# Altium schematic symbol library Digital.SchLib: 5 symbols
Pins are listed as number, name and electrical type; pins without a type are passive.

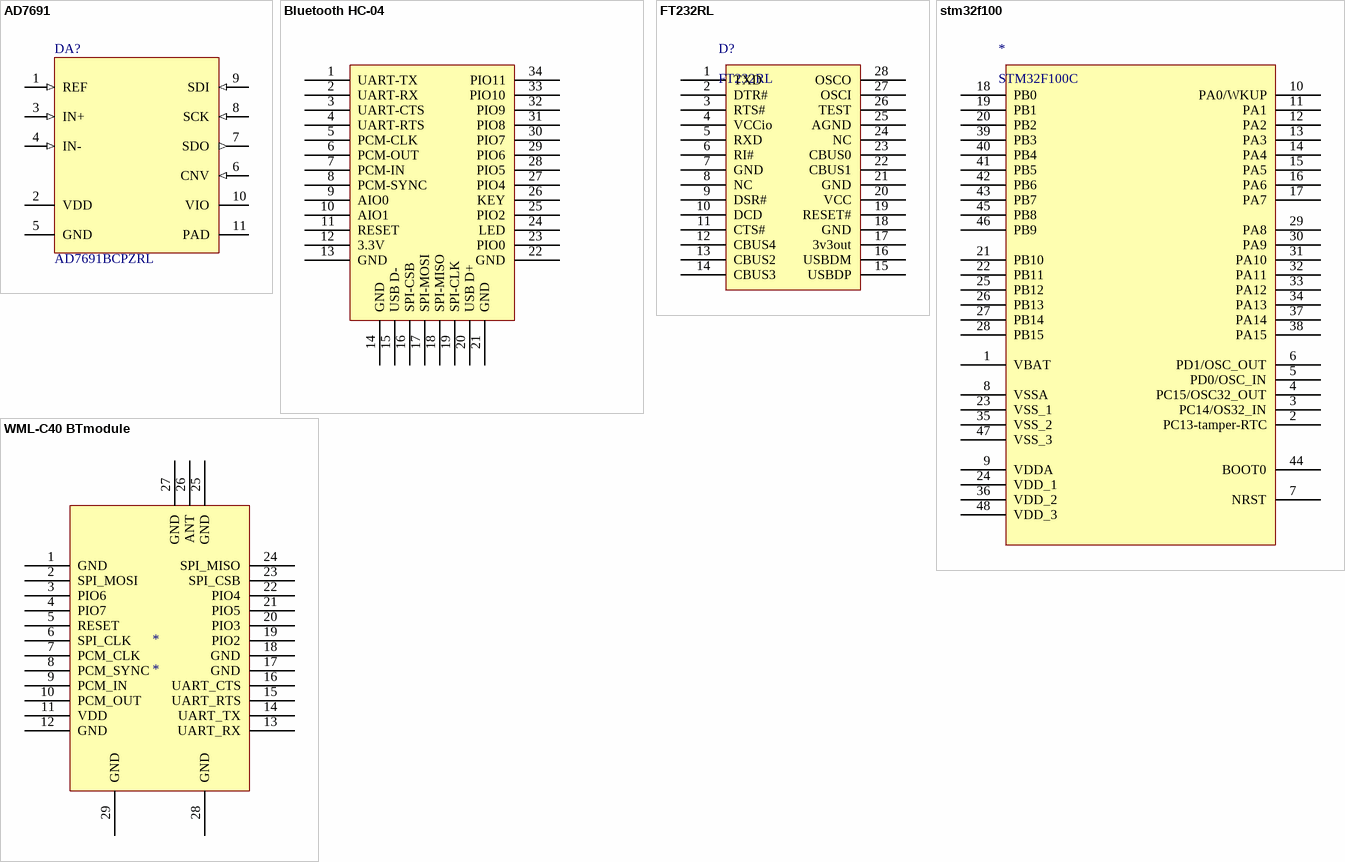
[diagram p0: symbols AD7691 to WML-C40 BTmodule]

## AD7691
designator DA?, comment AD7691BCPZRL
18-Bit, 1.5 LSB INL, 250 kSPS PulSAR  Differential ADC; Published: 8-Jun-2000; LatestRevisionDate: 04-Mar-2005; LatestRevisionNote: Stylized 3D Model Added.; DatasheetVersion: REV.B 1998; PackageVersion: revB, 1996; PackageReference: D-16_B; Publisher: Altium Limited; ComponentLink1Description: Manufacturer Link; ComponentLink1URL: http://www.analog.com/ad7691; ComponentLink2Description: Datasheet; ComponentLink2URL: http://www.analog.com/ad7691
footprint QFN-10N (10-Lead Lead Frame Chip Scale Package [QFN (LFCSP_WD)] 3 mm x 3 mm Body, Very Very Thin, Dual Lead, Pitch 0,50mm, IPC Medium Density)
pins: 1 REF (in), 2 VDD (power), 3 IN+ (in), 4 IN- (in), 5 GND (power), 6 CNV (in), 7 SDO (out), 8 SCK (in), 9 SDI (in), 10 VIO (power), 11 PAD (power)

## Bluetooth HC-04
designator P?, comment HC-04
Bluetooth module; LatestRevisionDate: 17-Jul-2002; LatestRevisionNote: Re-released for DXP Platform.; Publisher: Altium Limited
signal-integrity model Connector
footprint Bluetooth HC
pins: 1 UART-TX, 2 UART-RX, 3 UART-CTS, 4 UART-RTS, 5 PCM-CLK, 6 PCM-OUT, 7 PCM-IN, 8 PCM-SYNC, 9 AIO0, 10 AIO1, 11 RESET, 12 3.3V, 13 GND, 14 GND, 15 USB D-, 16 SPI-CSB, 17 SPI-MOSI, 18 SPI-MISO, 19 SPI-CLK, 20 USB D+, 21 GND, 22 GND, 23 PIO0, 24 LED, 25 PIO2, 26 KEY, 27 PIO4, 28 PIO5, 29 PIO6, 30 PIO7, 31 PIO8, 32 PIO9, 33 PIO10, 34 PIO11

## FT232RL
designator D?
USB - UART; Datasheet: D:\Books\Datasheets\Интерфейсы\FT232RL.pdf
footprint SSOP28_M (SOP, 28-Leads, Body 10.2x5.3mm, Pitch 0.65mm, IPC Low Density)
pins: 1 TXD, 2 DTR#, 3 RTS#, 4 VCCio, 5 RXD, 6 RI#, 7 GND, 8 NC, 9 DSR#, 10 DCD, 11 CTS#, 12 CBUS4, 13 CBUS2, 14 CBUS3, 15 USBDP, 16 USBDM, 17 3v3out, 18 GND, 19 RESET#, 20 VCC, 21 GND, 22 CBUS1, 23 CBUS0, 24 NC, 25 AGND, 26 TEST, 27 OSCI, 28 OSCO

## stm32f100
designator *, comment STM32F100C
pins: 1 VBAT, 2 PC13-tamper-RTC, 3 PC14/OS32_IN, 4 PC15/OSC32_OUT, 5 PD0/OSC_IN, 6 PD1/OSC_OUT, 7 NRST, 8 VSSA, 9 VDDA, 10 PA0/WKUP, 11 PA1, 12 PA2, 13 PA3, 14 PA4, 15 PA5, 16 PA6, 17 PA7, 18 PB0, 19 PB1, 20 PB2, 21 PB10, 22 PB11, 23 VSS_1, 24 VDD_1, 25 PB12, 26 PB13, 27 PB14, 28 PB15, 29 PA8, 30 PA9, 31 PA10, 32 PA11, 33 PA12, 34 PA13, 35 VSS_2, 36 VDD_2, 37 PA14, 38 PA15, 39 PB3, 40 PB4, 41 PB5, 42 PB6, 43 PB7, 44 BOOT0, 45 PB8, 46 PB9, 47 VSS_3, 48 VDD_3

## WML-C40 BTmodule
designator *
footprint WML-C40
pins: 1 GND, 2 SPI_MOSI, 3 PIO6, 4 PIO7, 5 RESET, 6 SPI_CLK, 7 PCM_CLK, 8 PCM_SYNC, 9 PCM_IN, 10 PCM_OUT, 11 VDD, 12 GND, 13 UART_RX, 14 UART_TX, 15 UART_RTS, 16 UART_CTS, 17 GND, 18 GND, 19 PIO2, 20 PIO3, 21 PIO5, 22 PIO4, 23 SPI_CSB, 24 SPI_MISO, 25 GND, 26 ANT, 27 GND, 28 GND, 29 GND